# Altium footprint library LDO.PcbLib: 7 footprints
Each footprint in its own frame and in the unit in brackets; x right, y up, seen from the top. Pads: shape width x height; smd on the part's side, far side on the other; paste and mask are expansions set on the pad; w line width, h text height; cw(c..) or ccw(c..) is an arc to the next point about the centre after c.
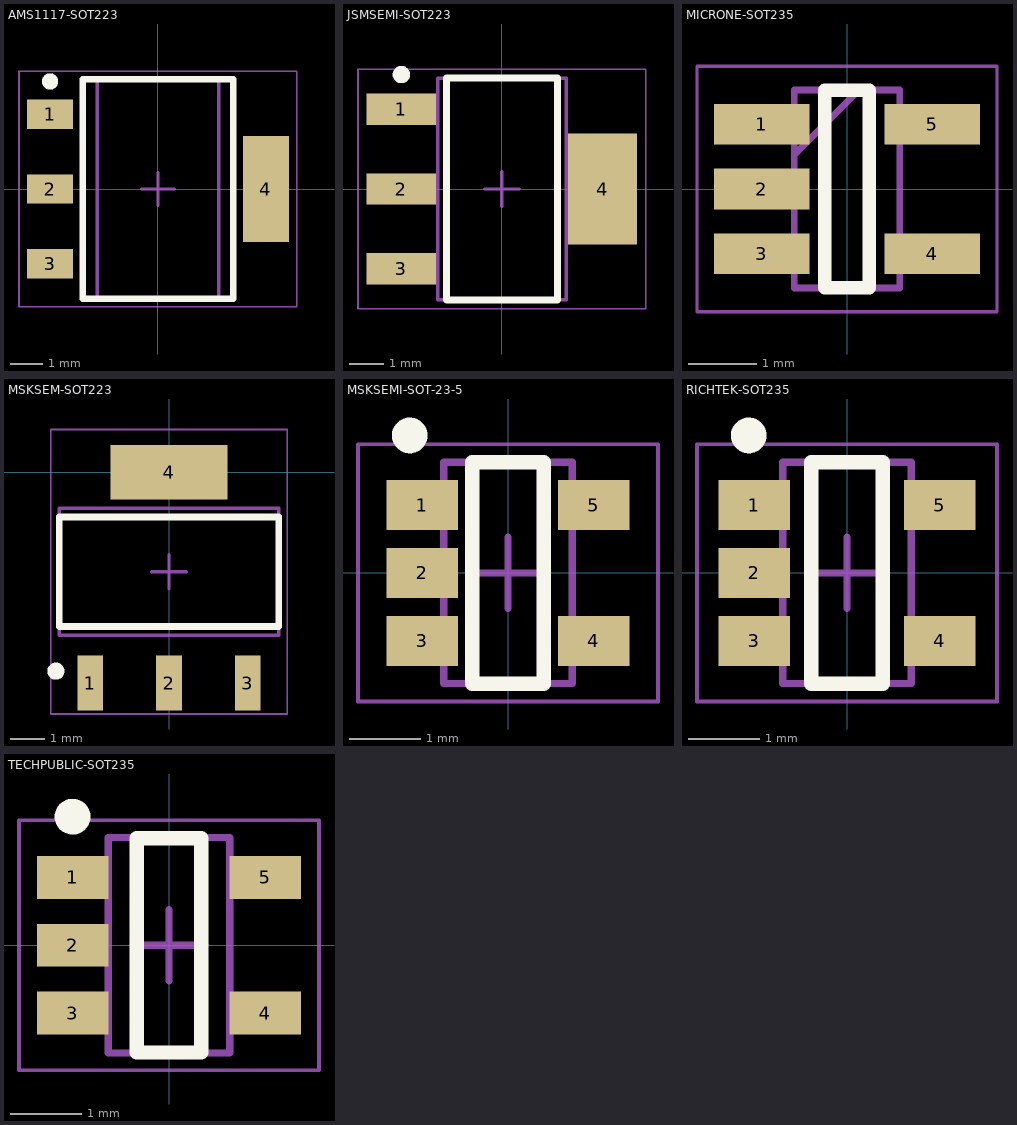
[diagram p0: the footprints below, top view; thin cyan lines are the x and y axes]

## AMS1117-SOT223 [mm] "SOT223, 4-Leads, Body 6.51x7.00mm (avg), Pitch 2.29mm, IPC Medium Density"
height 1.8
pads (4):
  rect 1.4x0.9 smd: 1(-3.3,2.29) 2(-3.3,0) 3(-3.3,-2.29)
  rect 1.4x3.25 smd: 4(3.3,0)
Top Overlay:
  circle w0.25: c-3.3,3.29 r0.125
  lines w0.2: -2.3,-3.35 2.3,-3.35 2.3,3.35 -2.3,3.35 -2.3,-3.35
Mechanical 13:
  lines w0.1: -1.855,-3.355 1.855,-3.355 1.855,3.355 -1.855,3.355 -1.855,-3.355
Mechanical 15:
  lines w0.05: -4.25,-3.6 4.25,-3.6 4.25,3.6 -4.25,3.6 -4.25,-3.6
  lines w0.1: -0.5,0 0.5,0 ; 0,-0.5 0,0.5
3D body "AMS1117-3.3.stp": height 1.81, standoff 0.01, extent -3.355,-3.15 3.355,3.15

## JSMSEMI-SOT223 [mm] "SOT223, 4-Leads, Body 6.30x6.95mm (avg), Pitch 2.30mm, IPC Medium Density"
height 1.8
pads (4):
  rect 2x0.9 smd: 1(-2.9,2.3) 2(-2.9,0) 3(-2.9,-2.3)
  rect 2x3.2 smd: 4(2.9,0)
Top Overlay:
  circle w0.25: c-2.9,3.3 r0.125
  lines w0.2: -1.6,-3.2 1.6,-3.2 1.6,3.2 -1.6,3.2 -1.6,-3.2
Mechanical 13:
  lines w0.1: -1.85,-3.2 1.85,-3.2 1.85,3.2 -1.85,3.2 -1.85,-3.2
Mechanical 15:
  lines w0.05: -4.15,-3.45 4.15,-3.45 4.15,3.45 -4.15,3.45 -4.15,-3.45
  lines w0.1: -0.5,0 0.5,0 ; 0,-0.5 0,0.5
3D body "JSMSEMI-SOT223.step": height 1.8, standoff 0, extent -3.475,-3.2 3.475,3.2

## MICRONE-SOT235 [mm]
pads (5):
  rect 1.4x0.6 smd: 1(-1.25,0.95) 2(-1.25,0) 3(-1.25,-0.95) 4(1.25,-0.95) 5(1.25,0.95)
Top Overlay:
  lines w0.2: -0.326,-1.45 -0.326,1.45 0.326,1.45 0.326,-1.45 -0.326,-1.45
Mechanical 15:
  lines w0.1: -0.775,0.5 0.175,1.45 ; -0.775,-1.45 -0.775,1.45 0.775,1.45 0.775,-1.45 -0.775,-1.45
Mechanical 20:
  lines w0.05: -2.2,-1.8 -2.2,1.8 2.2,1.8 2.2,-1.8 -2.2,-1.8
3D body "MICRONE-SOT235.stp": height 1.45, standoff 0, extent -1.35,-1.45 1.35,1.45

## MSKSEM-SOT223 [mm] "MSKSEMI(美森科) SOT223 推荐封装"
pads (4):
  rect 0.75x1.6 smd: 1(-2.3,-6.15) 2(0,-6.15) 3(2.3,-6.15)
  rect 3.4x1.6 smd: 4(0,0)
Top Overlay:
  circle w0.25: c-3.3,-5.8 r0.125
  lines w0.2: -3.2,-4.5 -3.2,-1.3 3.2,-1.3 3.2,-4.5 -3.2,-4.5
Mechanical 13:
  lines w0.1: -3.2,-4.75 -3.2,-1.05 3.2,-1.05 3.2,-4.75 -3.2,-4.75
Mechanical 15:
  lines w0.05: -3.45,-7.05 -3.45,1.25 3.45,1.25 3.45,-7.05 -3.45,-7.05
  lines w0.1: -0.5,-2.9 0.5,-2.9 ; 0,-3.4 0,-2.4
3D body "JSMSEMI-SOT223.step": height 1.8, standoff 0, extent -3.2,-6.375 3.2,0.575

## MSKSEMI-SOT-23-5 [mm] "MSKSEMI(美森科) SOT235 推荐fengzhuang"
pads (5):
  rect 1x0.7 smd: 1(-1.2,0.95) 2(-1.2,0) 3(-1.2,-0.95) 4(1.2,-0.95) 5(1.2,0.95)
Top Overlay:
  circle w0.25: c-1.375,1.925 r0.125
  lines w0.2: -0.5,-1.55 -0.5,1.55 0.5,1.55 0.5,-1.55 -0.5,-1.55
Mechanical 13:
  lines w0.1: -0.9,-1.55 0.9,-1.55 0.9,1.55 -0.9,1.55 -0.9,-1.55
Mechanical 15:
  lines w0.05: -2.1,-1.8 2.1,-1.8 2.1,1.8 -2.1,1.8 -2.1,-1.8
  lines w0.1: -0.5,0 0.5,0 ; 0,-0.5 0,0.5
3D body "RICHTEK-SOT235.step": height 1.3, standoff 0, extent -1.499,-1.55 1.499,1.55

## RICHTEK-SOT235 [mm] "RICHTEK(立锜) TSOT-25/TSOT-25(FC)/SOT-25 推荐焊盘"
height 1.3
pads (5):
  rect 1x0.7 smd: 1(-1.3,0.95) 2(-1.3,0) 3(-1.3,-0.95) 4(1.3,-0.95) 5(1.3,0.95)
Top Overlay:
  circle w0.25: c-1.375,1.925 r0.125
  lines w0.2: -0.5,-1.55 -0.5,1.55 0.5,1.55 0.5,-1.55 -0.5,-1.55
Mechanical 13:
  lines w0.1: -0.9,-1.55 0.9,-1.55 0.9,1.55 -0.9,1.55 -0.9,-1.55
Mechanical 15:
  lines w0.05: -2.1,-1.8 2.1,-1.8 2.1,1.8 -2.1,1.8 -2.1,-1.8
  lines w0.1: -0.5,0 0.5,0 ; 0,-0.5 0,0.5
3D body "RICHTEK-SOT235.step": height 1.3, standoff 0, extent -1.499,-1.55 1.499,1.55

## TECHPUBLIC-SOT235 [mm] "SOT23, 5-Leads, Body 2.92x2.80mm, Pitch 0.95mm, IPC Medium Density"
height 1.25
pads (5):
  rect 1x0.6 smd: 1(-1.35,0.95) 2(-1.35,0) 3(-1.35,-0.95) 4(1.35,-0.95) 5(1.35,0.95)
Top Overlay:
  circle w0.25: c-1.35,1.8 r0.125
  lines w0.2: -0.45,-1.5 0.45,-1.5 0.45,1.5 -0.45,1.5 -0.45,-1.5
Mechanical 13:
  lines w0.1: -0.85,-1.51 -0.85,1.51 0.85,1.51 0.85,-1.51 -0.85,-1.51
Mechanical 15:
  lines w0.05: -2.1,-1.75 -2.1,1.75 2.1,1.75 2.1,-1.75 -2.1,-1.75
  lines w0.1: -0.5,0 0.5,0 ; 0,-0.5 0,0.5
3D body "TECHPUBLIC-SOT235.step": height 1.25, standoff 0, extent -1.475,-1.51 1.475,1.51